# Altium footprint library Altuim_PCB_Lib.PcbLib: 52 footprints (part 3 of 4)
Each footprint in its own frame and in the unit in brackets; x right, y up, seen from the top. Pads: shape width x height; smd on the part's side, far side on the other; paste and mask are expansions set on the pad; w line width, h text height; cw(c..) or ccw(c..) is an arc to the next point about the centre after c.
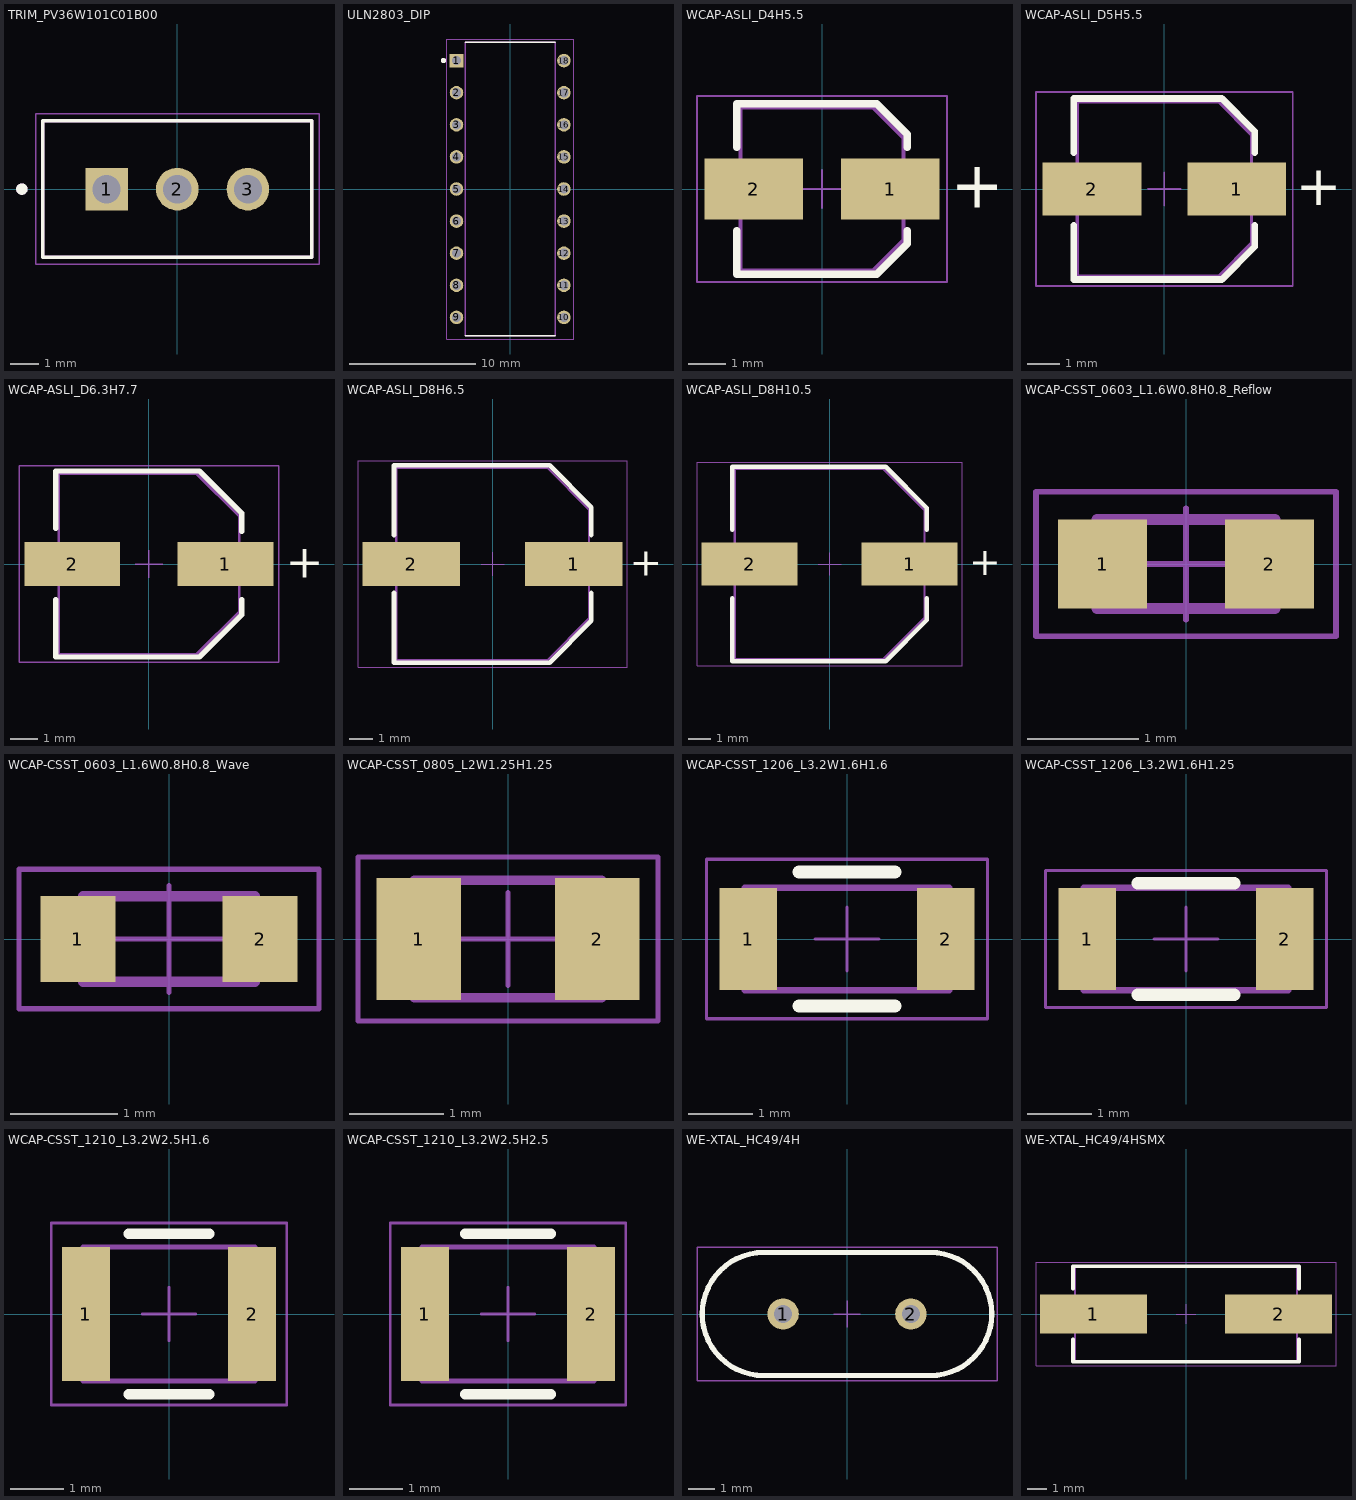
[diagram p2: the footprints below, top view; thin cyan lines are the x and y axes]

## TRIM_PV36W101C01B00 [mm]
pads (3):
  rect 1.508x1.508 / inner round 1.508 / far side rect 1.508x1.508 hole 1: 1(-2.5,0)
  round 1.508 hole 1: 2(0,0) 3(2.5,0)
Top Overlay:
  circle w0.2: c-5.5,0 r0.1
  lines w0.127: -4.765,-2.41 -4.765,2.42 4.765,2.42 4.765,-2.41 -4.765,-2.41
Mechanical 13:
  circle w0.2: c-5.5,0 r0.1
  lines w0.127: -4.765,-2.41 -4.765,2.42 4.765,2.42 4.765,-2.41 -4.765,-2.41
Mechanical 15:
  lines w0.05: -5.015,-2.66 -5.015,2.67 5.015,2.67 5.015,-2.66 -5.015,-2.66
3D body "step_temp.STEP": height 11.55, standoff -7.72, extent -4.765,-2.41 4.765,2.42

## ULN2803_DIP [mm]
height 3.93
pads (18):
  rect 1.07x1.07 / inner round 1.07 / far side rect 1.07x1.07 hole 0.72: 1(-4.25,10.16)
  round 1.07 hole 0.72: 2(-4.25,7.62) 3(-4.25,5.08) 4(-4.25,2.54) 5(-4.25,0) 6(-4.25,-2.54) 7(-4.25,-5.08) 8(-4.25,-7.62) 9(-4.25,-10.16) 10(4.25,-10.16) 11(4.25,-7.62) 12(4.25,-5.08) 13(4.25,-2.54) 14(4.25,0) 15(4.25,2.54) 16(4.25,5.08) 17(4.25,7.62) 18(4.25,10.16)
Top Overlay:
  circle w0.2: c-5.285,10.16 r0.1
  lines w0.127: -3.55,-11.62 3.55,-11.62 ; -3.55,11.62 3.55,11.62
Mechanical 13:
  circle w0.2: c-5.285,10.16 r0.1
  lines w0.127: -3.55,-11.62 3.55,-11.62 3.55,11.62 -3.55,11.62 -3.55,-11.62
Mechanical 15:
  lines w0.05: -5.035,-11.87 5.035,-11.87 5.035,11.87 -5.035,11.87 -5.035,-11.87
3D body "step_temp.STEP": height 3.93, standoff -3.3, extent -4.375,-11.62 4.375,11.62

## WCAP-ASLI_D4H5.5 [mm] "Aluminium Electrolytic V-Chip SMT Capacitors, 4x5.5mm"
height 5.5
pads (2):
  rect 2.6x1.6 smd: 1(1.8,0) 2(-1.8,0)
Top Overlay:
  lines w0.2: -2.25,-1.1 -2.25,-2.25 1.45,-2.25 2.25,-1.45 2.25,-1.1 ; -2.25,1.1 -2.25,2.25 1.45,2.25 2.25,1.45 2.25,1.1
  text "+" at 3.4,-0.5 h1.22
Top Courtyard:
  lines w0.05: -0.5,0 0.5,0 ; 0,-0.5 0,0.5 ; -3.3,-2.45 -3.3,2.45 3.3,2.45 3.3,-2.45 -3.3,-2.45
Top 3D Body:
  lines w0.1: -2.15,-2.15 -2.15,2.15 1.35,2.15 2.15,1.35 2.15,-1.35 1.35,-2.15 -2.15,-2.15
Top Component Outline:
  lines w0.1: -2.15,-2.15 -2.15,2.15 1.35,2.15 2.15,1.35 2.15,-1.35 1.35,-2.15 -2.15,-2.15
3D body "4x5.5x1.stp": height 5.5, standoff 0, extent -2.5,-2.15 2.5,2.15

## WCAP-ASLI_D5H5.5 [mm] "Aluminium Electrolytic V-Chip SMT Capacitors, 5x5.5mm"
height 5.5
pads (2):
  rect 3x1.6 smd: 1(2.2,0) 2(-2.2,0)
Top Overlay:
  lines w0.2: -2.75,-1.1 -2.75,-2.75 1.75,-2.75 2.75,-1.75 2.75,-1.1 ; -2.75,1.1 -2.75,2.75 1.75,2.75 2.75,1.75 2.75,1.1
  text "+" at 4,-0.5 h1.22
Top Courtyard:
  lines w0.05: -0.5,0 0.5,0 ; 0,-0.5 0,0.5 ; -3.9,-2.95 -3.9,2.95 3.9,2.95 3.9,-2.95 -3.9,-2.95
Top 3D Body:
  lines w0.1: -2.65,-2.65 1.65,-2.65 2.65,-1.65 2.65,1.65 1.65,2.65 -2.65,2.65 -2.65,-2.65
Top Component Outline:
  lines w0.1: -2.65,-2.65 1.65,-2.65 2.65,-1.65 2.65,1.65 1.65,2.65 -2.65,2.65 -2.65,-2.65
3D body "5x5.5x1.4.stp": height 5.5, standoff 0, extent -3,-2.65 3,2.65

## WCAP-ASLI_D6.3H7.7 [mm] "Aluminium Electrolytic V-Chip SMT Capacitors, 6.3x7.7mm"
height 7.7
pads (2):
  rect 3.5x1.6 smd: 1(2.8,0) 2(-2.8,0)
Top Overlay:
  lines w0.2: -3.4,-1.3 -3.4,-3.4 1.85,-3.4 3.4,-1.85 3.4,-1.3 ; -3.4,1.3 -3.4,3.4 1.85,3.4 3.4,1.85 3.4,1.2
  text "+" at 5,-0.5 h1.22
Top Courtyard:
  lines w0.05: -0.5,0 0.5,0 ; 0,-0.5 0,0.5 ; -4.75,-3.6 -4.75,3.6 4.75,3.6 4.75,-3.6 -4.75,-3.6
Top 3D Body:
  lines w0.1: -3.3,-3.3 1.75,-3.3 3.3,-1.75 3.3,1.75 1.75,3.3 -3.3,3.3 -3.3,-3.3
Top Component Outline:
  lines w0.1: -3.3,-3.3 1.75,-3.3 3.3,-1.75 3.3,1.75 1.75,3.3 -3.3,3.3 -3.3,-3.3
3D body "6.3x7.7x2.2.stp": height 7.7, standoff 0, extent -3.65,-3.3 3.65,3.3

## WCAP-ASLI_D8H6.5 [mm] "Aluminium Electrolytic V-Chip SMT Capacitors, 8x6.5mm"
height 6.5
pads (2):
  rect 4.2x1.9 smd: 1(3.5,0) 2(-3.5,0)
Top Overlay:
  lines w0.2: -4.25,-1.25 -4.25,-4.25 2.45,-4.25 4.25,-2.45 4.25,-1.25 ; -4.25,1.25 -4.25,4.25 2.45,4.25 4.25,2.45 4.25,1.25
  text "+" at 5.9,-0.5 h1.22
Top Courtyard:
  lines w0.05: -0.5,0 0.5,0 ; 0,-0.5 0,0.5 ; -5.8,-4.45 5.8,-4.45 5.8,4.45 -5.8,4.45 -5.8,-4.45
Top 3D Body:
  lines w0.1: -4.15,-4.15 -4.15,4.15 2.35,4.15 4.15,2.35 4.15,-2.35 2.35,-4.15 -4.15,-4.15
Top Component Outline:
  lines w0.1: -4.15,-4.15 -4.15,4.15 2.35,4.15 4.15,2.35 4.15,-2.35 2.35,-4.15 -4.15,-4.15
3D body "8x6.5x2.3.stp": height 6.45, standoff -0.05, extent -4.5,-4.15 4.5,4.15

## WCAP-ASLI_D8H10.5 [mm] "Aluminium Electrolytic V-Chip SMT Capacitors, 8x10.5mm"
height 10.5
pads (2):
  rect 4.2x1.9 smd: 1(3.5,0) 2(-3.5,0)
Top Overlay:
  lines w0.2: -4.25,-1.5 -4.25,-4.25 2.45,-4.25 4.25,-2.45 4.25,-1.5 ; -4.25,1.5 -4.25,4.25 2.45,4.25 4.25,2.45 4.25,1.5
  text "+" at 6.1,-0.5 h1.22
Top Courtyard:
  lines w0.05: -0.5,0 0.5,0 ; 0,-0.5 0,0.5 ; -5.8,-4.45 5.8,-4.45 5.8,4.45 -5.8,4.45 -5.8,-4.45
Top 3D Body:
  lines w0.1: -4.15,-4.15 -4.15,4.15 2.35,4.15 4.15,2.35 4.15,-2.35 2.35,-4.15 -4.15,-4.15
Top Component Outline:
  lines w0.1: -4.15,-4.15 -4.15,4.15 2.35,4.15 4.15,2.35 4.15,-2.35 2.35,-4.15 -4.15,-4.15
3D body "8x10.5x3.1.stp": height 10.5, standoff 0, extent -4.5,-4.15 4.5,4.15

## WCAP-CSST_0603_L1.6W0.8H0.8_Reflow [mm] "Soft Termination MLCC, body 1.60x0.80mm"
height 0.8
pads (2):
  rect 0.8x0.8 smd: 1(-0.75,0) 2(0.75,0)
Top Courtyard:
  lines w0.05: -0.5,0 0.5,0 ; 0,-0.5 0,0.5 ; -1.35,-0.65 1.35,-0.65 1.35,0.65 -1.35,0.65 -1.35,-0.65
Top Component Outline:
  lines w0.1: -0.8,-0.4 0.8,-0.4 0.8,0.4 -0.8,0.4 -0.8,-0.4
3D body "CAPC1608X08N.step": height 0.8, standoff 0, extent -0.8,-0.4 0.8,0.4

## WCAP-CSST_0603_L1.6W0.8H0.8_Wave [mm] "Soft Termination MLCC, body 1.60x0.80mm"
height 0.8
pads (2):
  rect 0.7x0.8 smd: 1(-0.85,0) 2(0.85,0)
Top Courtyard:
  lines w0.05: -0.5,0 0.5,0 ; 0,-0.5 0,0.5 ; -1.4,-0.65 -1.4,0.65 1.4,0.65 1.4,-0.65 -1.4,-0.65
Top Component Outline:
  lines w0.1: -0.8,-0.4 0.8,-0.4 0.8,0.4 -0.8,0.4 -0.8,-0.4
3D body "CAPC1608X08N.step": height 0.8, standoff 0, extent -0.8,-0.4 0.8,0.4

## WCAP-CSST_0805_L2W1.25H1.25 [mm] "Soft Termination MLCC, body 2.00x1.25mm"
height 1.25
pads (2):
  rect 0.9x1.3 smd: 1(-0.95,0) 2(0.95,0)
Top Courtyard:
  lines w0.05: -0.5,0 0.5,0 ; 0,-0.5 0,0.5 ; -1.6,-0.875 1.6,-0.875 1.6,0.875 -1.6,0.875 -1.6,-0.875
Top 3D Body:
  lines w0.1: -1,-0.625 1,-0.625 1,0.625 -1,0.625 -1,-0.625
Top Component Outline:
  lines w0.1: -1,-0.625 1,-0.625 1,0.625 -1,0.625 -1,-0.625
3D body "CAPC2012X12N.step": height 1.25, standoff 0, extent -1,-0.625 1,0.625

## WCAP-CSST_1206_L3.2W1.6H1.6 [mm] "Soft Termination MLCC, body 3.20x1.60mm"
height 1.6
pads (2):
  rect 0.9x1.6 smd: 1(-1.55,0) 2(1.55,0)
Top Overlay:
  lines w0.2: -0.75,-1.05 0.75,-1.05 ; -0.75,1.05 0.75,1.05
Top Courtyard:
  lines w0.05: -0.5,0 0.5,0 ; 0,-0.5 0,0.5 ; -2.2,-1.25 -2.2,1.25 2.2,1.25 2.2,-1.25 -2.2,-1.25
Top 3D Body:
  lines w0.1: -1.6,-0.8 -1.6,0.8 1.6,0.8 1.6,-0.8 -1.6,-0.8
Top Component Outline:
  lines w0.1: -1.6,-0.8 -1.6,0.8 1.6,0.8 1.6,-0.8 -1.6,-0.8
3D body "CAPC3216X16N.step": height 1.6, standoff 0, extent -1.6,-0.8 1.6,0.8

## WCAP-CSST_1206_L3.2W1.6H1.25 [mm] "Soft Termination MLCC, body 3.20x1.60mm"
height 1.25
pads (2):
  rect 0.9x1.6 smd: 1(-1.55,0) 2(1.55,0)
Top Overlay:
  lines w0.2: -0.75,-0.875 0.75,-0.875 ; -0.75,0.875 0.75,0.875
Top Courtyard:
  lines w0.05: -0.5,0 0.5,0 ; 0,-0.5 0,0.5 ; -2.2,-1.075 2.2,-1.075 2.2,1.075 -2.2,1.075 -2.2,-1.075
Top 3D Body:
  lines w0.1: -1.6,-0.8 1.6,-0.8 1.6,0.8 -1.6,0.8 -1.6,-0.8
Top Component Outline:
  lines w0.1: -1.6,-0.8 1.6,-0.8 1.6,0.8 -1.6,0.8 -1.6,-0.8
3D body "CAPC3216X12N.step": height 1.25, standoff 0, extent -1.6,-0.8 1.6,0.8

## WCAP-CSST_1210_L3.2W2.5H1.6 [mm] "Soft Termination MLCC, body 3.20x2.50mm"
height 1.6
pads (2):
  rect 0.9x2.5 smd: 1(-1.55,0) 2(1.55,0)
Top Overlay:
  lines w0.2: -0.75,-1.5 0.75,-1.5 ; -0.75,1.5 0.75,1.5
Top Courtyard:
  lines w0.05: -0.5,0 0.5,0 ; 0,-0.5 0,0.5 ; -2.2,-1.7 -2.2,1.7 2.2,1.7 2.2,-1.7 -2.2,-1.7
Top 3D Body:
  lines w0.1: -1.6,-1.25 -1.6,1.25 1.6,1.25 1.6,-1.25 -1.6,-1.25
Top Component Outline:
  lines w0.1: -1.6,-1.25 -1.6,1.25 1.6,1.25 1.6,-1.25 -1.6,-1.25
3D body "CAPC3225X16N.step": height 1.6, standoff 0, extent -1.6,-1.25 1.6,1.25

## WCAP-CSST_1210_L3.2W2.5H2.5 [mm] "Soft Termination MLCC, body 3.20x2.50mm"
height 2.5
pads (2):
  rect 0.9x2.5 smd: 1(-1.55,0) 2(1.55,0)
Top Overlay:
  lines w0.2: -0.8,-1.5 0.8,-1.5 ; -0.8,1.5 0.8,1.5
Top Courtyard:
  lines w0.05: -0.5,0 0.5,0 ; 0,-0.5 0,0.5 ; -2.2,-1.7 2.2,-1.7 2.2,1.7 -2.2,1.7 -2.2,-1.7
Top 3D Body:
  lines w0.1: -1.6,-1.25 1.6,-1.25 1.6,1.25 -1.6,1.25 -1.6,-1.25
Top Component Outline:
  lines w0.1: -1.6,-1.25 1.6,-1.25 1.6,1.25 -1.6,1.25 -1.6,-1.25
3D body "CAPC3225X25N.step": height 2.5, standoff 0, extent -1.6,-1.25 1.6,1.25

## WE-XTAL_HC49/4H [mm] "Quartz Crystal, size HC49/4H, body 11.05x4.7mm"
height 4.1
pads (2):
  round 1.2 hole 0.7: 1(-2.44,0) 2(2.44,0)
Top Overlay:
  lines w0.2: -3.175,-2.35 cw(c-3.175,0) -3.175,2.35 3.175,2.35 cw(c3.175,0) 3.175,-2.35 -3.175,-2.35
Top Courtyard:
  lines w0.05: -0.5,0 0.5,0 ; 0,-0.5 0,0.5 ; -5.725,-2.55 5.725,-2.55 5.725,2.55 -5.725,2.55 -5.725,-2.55
Top 3D Body:
  lines w0.1: -3.175,-2.35 cw(c-3.175,0) -3.175,2.35 3.175,2.35 cw(c3.175,0) 3.175,-2.35 -3.175,-2.35
Top Component Outline:
  lines w0.1: -3.175,-2.35 cw(c-3.175,0) -3.175,2.35 3.175,2.35 cw(c3.175,0) 3.175,-2.35 -3.175,-2.35
3D body "Frq_XTAL_HC49-4H.stp": height 4.15, standoff -12.65, extent -5.525,-2.35 5.525,2.35

## WE-XTAL_HC49/4HSMX [mm] "Quartz Crystal, size HC49/4HSMX, body 11.4x4.9mm"
height 4.3
pads (2):
  rect 5.5x2 smd: 1(-4.75,0) 2(4.75,0)
Top Overlay:
  lines w0.2: -5.8,-1.3 -5.8,-2.45 5.8,-2.45 5.8,-1.3 ; -5.8,1.3 -5.8,2.45 5.8,2.45 5.8,1.3
Top Courtyard:
  lines w0.05: -0.5,0 0.5,0 ; 0,-0.5 0,0.5 ; -7.7,-2.65 -7.7,2.65 7.7,2.65 7.7,-2.65 -7.7,-2.65
Top 3D Body:
  lines w0.1: -5.7,-2.45 -5.7,2.45 5.7,2.45 5.7,-2.45 -5.7,-2.45
Top Component Outline:
  lines w0.1: -5.7,-2.45 5.7,-2.45 5.7,2.45 -5.7,2.45 -5.7,-2.45
3D body "FrqXTAL_HC49-4HSMX.stp": height 4.3, standoff 0, extent -6.7,-2.45 6.7,2.45